# Altium footprint library PLCC-6.PcbLib: 1 footprints
Each footprint in its own frame and in the unit in brackets; x right, y up, seen from the top. Pads: shape width x height; smd on the part's side, far side on the other; paste and mask are expansions set on the pad; w line width, h text height; cw(c..) or ccw(c..) is an arc to the next point about the centre after c.
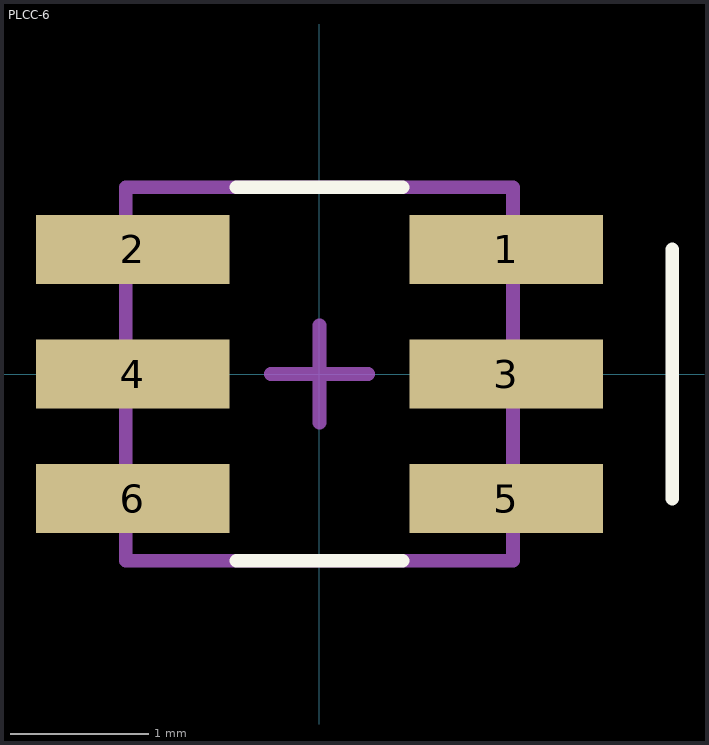
[diagram p0: the footprint, top view; thin cyan lines are the x and y axes]

## PLCC-6 [mm]
pads (6):
  rect 1.4x0.5 smd mask+0.051: 1(1.35,0.9) 2(-1.35,0.9) 3(1.35,0) 4(-1.35,0) 5(1.35,-0.9) 6(-1.35,-0.9)
Top Overlay:
  lines w0.1: -0.6,-1.35 0.6,-1.35 ; -0.6,1.35 0.6,1.35 ; 2.55,-0.9 2.55,0.9
Mechanical 13:
  lines w0.1: -1.4,-1.35 1.4,-1.35 1.4,1.35 0,1.35 -1.4,1.35 -1.4,-1.35
Mechanical 15:
  lines w0.1: -0.35,0 0,0 ; 0,-0.35 0,0 ; 0,0.35 0,0 ; 0.35,0 0,0
3D body "PLCC-6.STEP": height 1.86, standoff 0.01, extent -1.691,-1.401 1.709,1.399